# Altium footprint library project_x_pcb_library.PcbLib: 29 footprints (part 1 of 2)
Each footprint in its own frame and in the unit in brackets; x right, y up, seen from the top. Pads: shape width x height; smd on the part's side, far side on the other; paste and mask are expansions set on the pad; w line width, h text height; cw(c..) or ccw(c..) is an arc to the next point about the centre after c.
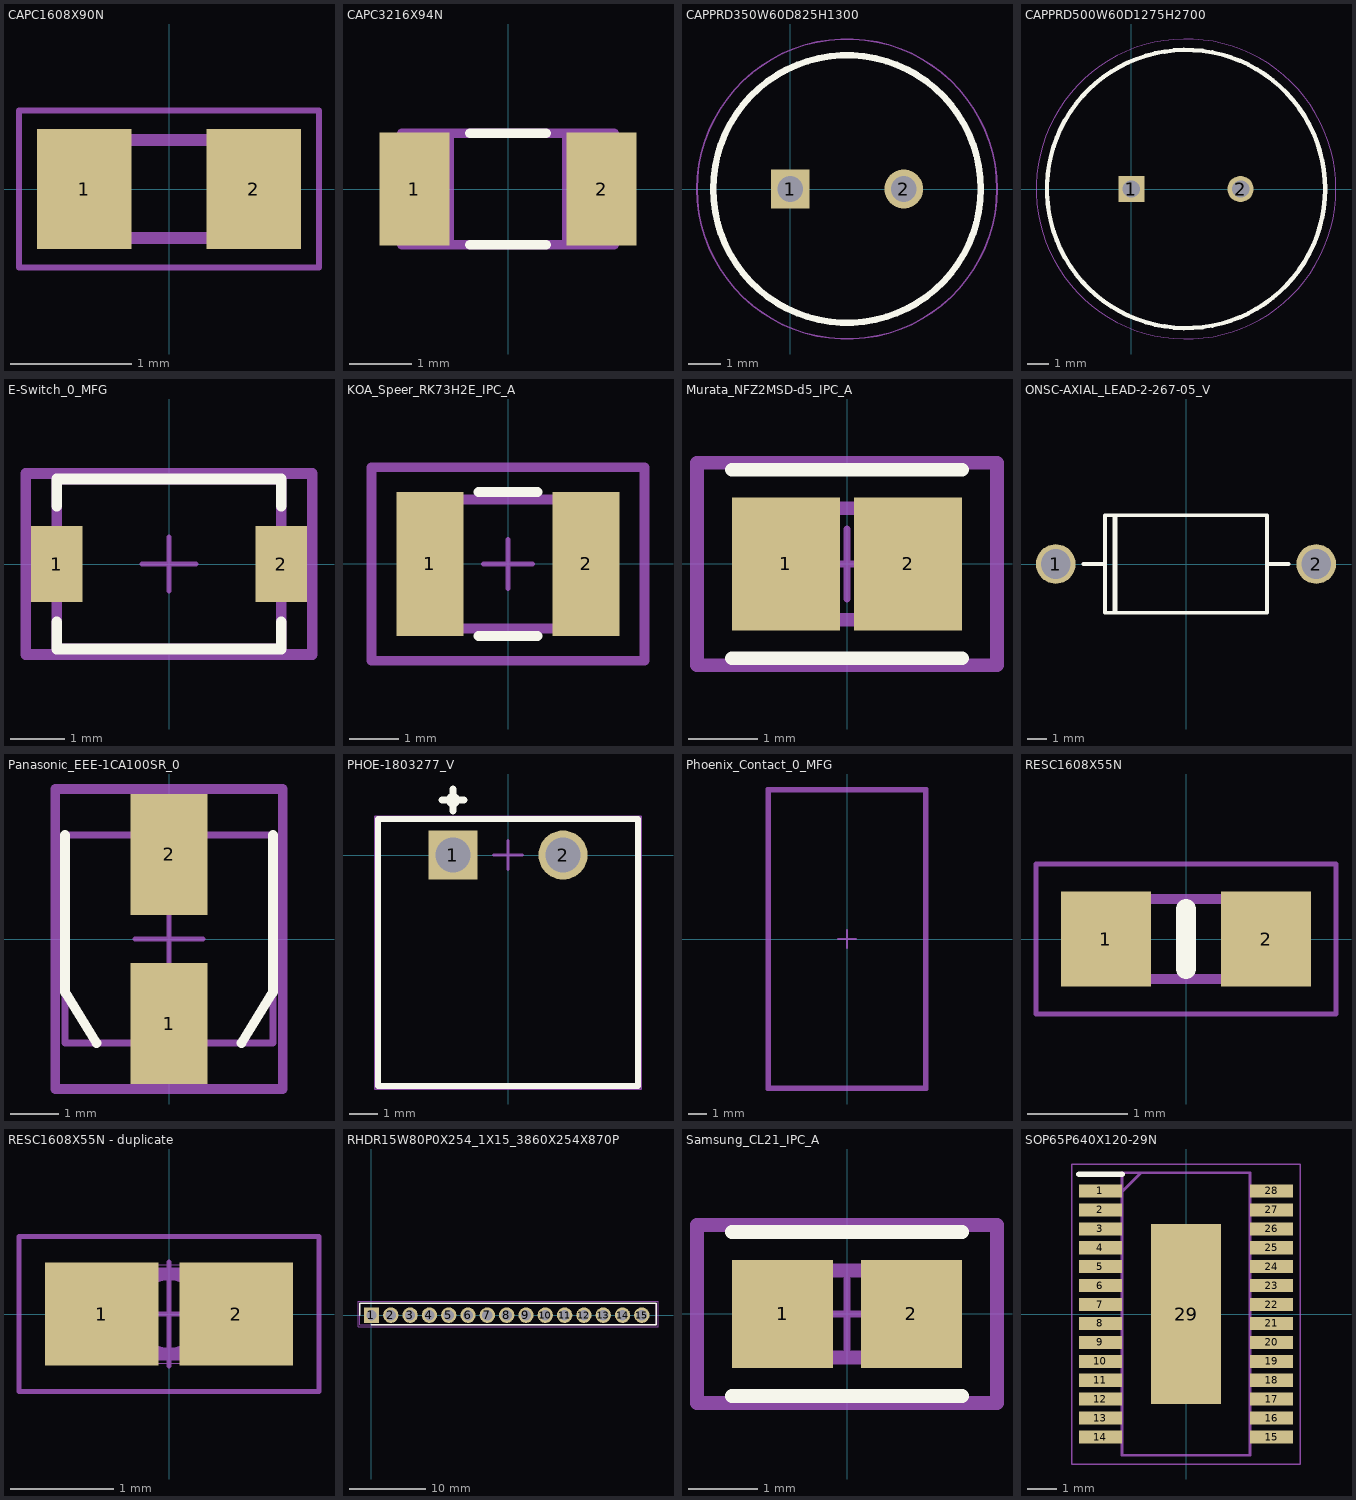
[diagram p0: the footprints below, top view; thin cyan lines are the x and y axes]

## CAPC1608X90N [mm]
pads (2):
  rect 0.78x0.99 smd: 1(-0.7,0) 2(0.7,0)
Mechanical 13:
  lines w0.1: -0.8,-0.405 0.8,-0.405 0.8,0.405 -0.8,0.405 -0.8,-0.405
Mechanical 15:
  lines w0.05: -1.24,-0.65 1.24,-0.65 1.24,0.65 -1.24,0.65 -1.24,-0.65
3D body "06033D224KAT2A.stp": height 0.9, standoff 0, extent -0.8,-0.405 0.8,0.405

## CAPC3216X94N [mil]
pads (2):
  rect 44x71 smd: 1(-59,0) 2(59,0)
Top Overlay:
  lines w6: -24,-35 24,-35 ; -24,35 24,35
Mechanical 13:
  lines w6: -37,-35 37,-35 ; -37,-35 -67,-35 -67,35 -37,35 ; -37,-35 -37,35 ; -37,35 37,35 ; 37,-35 67,-35 67,35 37,35 ; 37,-35 37,35
3D body "1206_AVX.step": height 37.01, standoff 0, extent -67,-35.51 67.01,35.51

## CAPPRD350W60D825H1300 [mm]
pads (2):
  rect 1.2x1.2 hole 0.8: 1(0,0)
  round 1.2 hole 0.8: 2(3.5,0)
Top Overlay:
  circle w0.2: c1.75,0 r4.125
Mechanical 13:
  circle w0.1: c1.75,0 r4.125
Mechanical 15:
  circle w0.05: c1.75,0 r4.625
3D body "UHE1H101MPD.stp": height 13, standoff -10, extent -2.5,-4.25 6,4.25

## CAPPRD500W60D1275H2700 [mm]
pads (2):
  rect 1.2x1.2 hole 0.8: 1(0,0)
  round 1.2 hole 0.8: 2(5,0)
Top Overlay:
  circle w0.2: c2.5,0 r6.375
Mechanical 13:
  circle w0.1: c2.5,0 r6.375
Mechanical 15:
  circle w0.05: c2.5,0 r6.875
3D body "UVR1H102MHD1TO.stp": height 27, standoff -10, extent -4,-6.5 9,6.5

## E-Switch_0_MFG [mm]
pads (2):
  rect 0.95x1.4 smd paste+0 mask+0: 1(-2.075,0) 2(2.075,0)
Top Overlay:
  lines w0.2: -2.075,-1.075 -2.075,-1.575 2.075,-1.575 2.075,-1.075 ; -2.075,1.075 -2.075,1.575 2.075,1.575 2.075,1.075
Mechanical 10:
  lines w0.2: -2.65,-1.675 2.65,-1.675 2.65,1.675 -2.65,1.675 -2.65,-1.675
Mechanical 12:
  lines w0.2: -2.075,-1.575 2.075,-1.575 2.075,1.575 -2.075,1.575 -2.075,-1.575
Mechanical 15:
  lines w0.1: -0.5,0 0.5,0 ; 0,-0.5 0,0.5
  lines w0.2: -2.65,-1.675 2.65,-1.675 2.65,1.675 -2.65,1.675 -2.65,-1.675
3D body "Switch_E-Switch_TL1015AF160QG_eec.STEP": height 0.25, standoff 0, extent -2.65,-1.675 2.65,1.675

## KOA_Speer_RK73H2E_IPC_A [mm]
pads (2):
  rect 1.355x2.906 smd paste+0 mask+0: 1(-1.575,0) 2(1.575,0)
Top Overlay:
  lines w0.2: -0.598,-1.453 0.598,-1.453 ; -0.598,1.453 0.598,1.453
Mechanical 10:
  lines w0.2: -2.753,-1.953 2.753,-1.953 2.753,1.953 -2.753,1.953 -2.753,-1.953
Mechanical 12:
  lines w0.2: -1.6,-1.3 1.6,-1.3 1.6,1.3 -1.6,1.3 -1.6,-1.3
Mechanical 15:
  lines w0.1: -0.5,0 0.5,0 ; 0,-0.5 0,0.5
  lines w0.2: -2.753,-1.953 2.753,-1.953 2.753,1.953 -2.753,1.953 -2.753,-1.953
3D body "Res_KOA_Speer_RK73H2ETTD2201F_eec.STEP": height 0.25, standoff 0, extent -2.753,-1.953 2.753,1.953

## Murata_NFZ2MSD-d5_IPC_A [mm]
pads (2):
  rect 1.554x1.906 smd paste+0 mask+0: 1(-0.876,0) 2(0.876,0)
Top Overlay:
  lines w0.2: -1.653,-1.353 1.653,-1.353 ; -1.653,1.353 1.653,1.353
Mechanical 10:
  lines w0.2: -2.153,-1.453 -2.153,1.453 2.153,1.453 2.153,-1.453 -2.153,-1.453
Mechanical 12:
  lines w0.2: -1,-0.8 -1,0.8 1,0.8 1,-0.8 -1,-0.8
Mechanical 15:
  lines w0.1: -0.5,0 0.5,0 ; 0,-0.5 0,0.5
  lines w0.2: -2.153,-1.453 -2.153,1.453 2.153,1.453 2.153,-1.453 -2.153,-1.453
3D body "FBead_Murata_NFZ2MSD301SZ10L_eec.STEP": height 0.25, standoff 0, extent -2.153,-1.453 2.153,1.453

## ONSC-AXIAL_LEAD-2-267-05_V [mm] "AXIAL, 2-Leads, Diameter 5.05mm"
height 5.05
pads (2):
  round 2.05 hole 1.55: 1(-6.745,0) 2(6.745,0)
Top Overlay:
  lines w0.2: -5.32,0 -4.2,0 ; 4.2,0 5.32,0 ; -4.2,-2.525 -4.2,2.525 4.2,2.525 4.2,-2.525 -4.2,-2.525
  lines w0.254: -3.683,-2.413 -3.683,2.413

## Panasonic_EEE-1CA100SR_0 [mm]
pads (2):
  rect 1.6x2.5 smd paste+0 mask+0: 1(0,-1.75) 2(0,1.75)
Top Overlay:
  lines w0.2: -2.15,-1.1 -2.15,2.15 ; -2.15,-1.09 -1.5,-2.15 ; 1.5,-2.15 2.15,-1.09 ; 2.15,-1.1 2.15,2.15
Mechanical 10:
  lines w0.2: -2.35,-3.1 2.35,-3.1 2.35,3.1 -2.35,3.1 -2.35,-3.1
Mechanical 12:
  lines w0.15: -2.15,-2.15 2.15,-2.15 2.15,2.15 -2.15,2.15 -2.15,-2.15
Mechanical 15:
  lines w0.1: -0.705,0 0.705,0 ; 0,-0.705 0,0.705
  lines w0.2: -2.35,-3.1 2.35,-3.1 2.35,3.1 -2.35,3.1 -2.35,-3.1
3D body "Cap_Panasonic_EEE-1CA100SR_eec.STEP": height 5.4, standoff 0, extent -2.119,-2.413 2.181,2.587

## PHOE-1803277_V [mm] "CONN, Body 9.2x9.01mm, Pitch 3.81mm"
height 7.25
pads (2):
  rect 1.7x1.7 hole 1.2: 1(-1.905,0)
  round 1.7 hole 1.2: 2(1.905,0)
Top Overlay:
  circle w0.25: c-1.905,1.9 r0.125
  lines w0.2: -4.505,-8 4.505,-8 4.505,1.25 -4.505,1.25 -4.505,-8
  lines w0.254: -2.286,1.905 -1.524,1.905 ; -1.905,1.524 -1.905,2.286
Mechanical 13:
  lines w0.1: -4.505,-8 -4.505,1.2 4.505,1.2 4.505,-8 -4.505,-8
Mechanical 15:
  lines w0.05: -4.605,-8.1 4.605,-8.1 4.605,1.35 -4.605,1.35 -4.605,-8.1
  lines w0.1: -0.5,0 0.5,0 ; 0,-0.5 0,0.5
3D body "1803277.stp": height 7.25, standoff -3.4, extent -4.505,-8 4.505,1.3

## Phoenix_Contact_0_MFG [mm]
Mechanical 10:
  lines w0.2: -4.38,-8.225 -4.38,8.225 4.38,8.225 4.38,-8.225 -4.38,-8.225
Mechanical 12:
  lines w0.2: -4.28,-8.125 -4.28,8.125 4.28,8.125 4.28,-8.125 -4.28,-8.125
Mechanical 15:
  lines w0.1: -0.5,0 0.5,0 ; 0,-0.5 0,0.5
  lines w0.2: -4.38,-8.225 -4.38,8.225 4.38,8.225 4.38,-8.225 -4.38,-8.225
3D body "Conn_Phoenix_Contact_1803578_eec.STEP": height 0.25, standoff 0, extent -4.38,-8.225 4.38,8.225

## RESC1608X55N [mm]
pads (2):
  rect 0.9x0.95 smd: 1(-0.8,0) 2(0.8,0)
Top Overlay:
  lines w0.2: 0,-0.3 0,0.3
Mechanical 13:
  lines w0.1: -0.8,-0.4 0.8,-0.4 0.8,0.4 -0.8,0.4 -0.8,-0.4
Mechanical 15:
  lines w0.05: -1.5,-0.75 1.5,-0.75 1.5,0.75 -1.5,0.75 -1.5,-0.75
3D body "ESR03EZPF10R0.stp": height 0.55, standoff 0, extent -0.8,-0.4 0.8,0.4

## RESC1608X55N - duplicate [mm]
pads (2):
  rect 1.1x1 smd: 1(-0.65,0) 2(0.65,0)
Mechanical 13:
  lines w0.1: -0.8,-0.4 0.8,-0.4 0.8,0.4 -0.8,0.4 -0.8,-0.4
Mechanical 15:
  circle w0.05: c0,0 r0.35
  lines w0.001: -0.85,-0.475 0.85,-0.475 0.85,0.475 -0.85,0.475 -0.85,-0.475
  lines w0.05: -0.5,0 0.5,0 ; 0,-0.5 0,0.5 ; -1.45,-0.75 1.45,-0.75 1.45,0.75 -1.45,0.75 -1.45,-0.75
3D body "RC0603JR-0768RL.stp": height 0.55, standoff 0, extent -0.8,-0.4 0.8,0.4

## RHDR15W80P0X254_1X15_3860X254X870P [mm]
pads (15):
  rect 2.025x2.025 hole 1.35: 1(0,0)
  round 2.025 hole 1.35: 2(2.54,0) 3(5.08,0) 4(7.62,0) 5(10.16,0) 6(12.7,0) 7(15.24,0) 8(17.78,0) 9(20.32,0) 10(22.86,0) 11(25.4,0) 12(27.94,0) 13(30.48,0) 14(33.02,0) 15(35.56,0)
Top Overlay:
  lines w0.2: -1.52,0 -1.52,1.57 37.43,1.57 37.43,-1.27 0,-1.27
Mechanical 13:
  lines w0.1: -1.52,-1.27 37.43,-1.27 37.43,1.57 -1.52,1.57 -1.52,-1.27
Mechanical 15:
  lines w0.05: -1.77,-1.52 37.68,-1.52 37.68,1.82 -1.77,1.82 -1.77,-1.52
3D body "PPPC151LFBN-RC.stp": height 8.7, standoff -3.5, extent -1.52,-1.27 37.08,1.27

## Samsung_CL21_IPC_A [mm]
pads (2):
  rect 1.455x1.556 smd paste+0 mask+0: 1(-0.926,0) 2(0.926,0)
Top Overlay:
  lines w0.2: -1.653,-1.178 1.653,-1.178 ; -1.653,1.178 1.653,1.178
Mechanical 10:
  lines w0.2: -2.153,-1.278 2.153,-1.278 2.153,1.278 -2.153,1.278 -2.153,-1.278
Mechanical 12:
  lines w0.2: -1,-0.625 1,-0.625 1,0.625 -1,0.625 -1,-0.625
Mechanical 15:
  lines w0.1: -0.5,0 0.5,0 ; 0,-0.5 0,0.5
  lines w0.2: -2.153,-1.278 2.153,-1.278 2.153,1.278 -2.153,1.278 -2.153,-1.278
3D body "Cap_Samsung_CL21B225KAFNFNE_eec.STEP": height 0.25, standoff 0, extent -2.153,-1.278 2.153,1.278

## SOP65P640X120-29N [mm]
pads (29):
  rect 1.475x0.45 smd: 1(-2.938,4.225) 2(-2.938,3.575) 3(-2.938,2.925) 4(-2.938,2.275) 5(-2.938,1.625) 6(-2.938,0.975) 7(-2.938,0.325) 8(-2.938,-0.325) 9(-2.938,-0.975) 10(-2.938,-1.625) 11(-2.938,-2.275) 12(-2.938,-2.925) 13(-2.938,-3.575) 14(-2.938,-4.225) 15(2.938,-4.225) 16(2.938,-3.575) 17(2.938,-2.925) 18(2.938,-2.275) 19(2.938,-1.625) 20(2.938,-0.975) 21(2.938,-0.325) 22(2.938,0.325) 23(2.938,0.975) 24(2.938,1.625) 25(2.938,2.275) 26(2.938,2.925) 27(2.938,3.575) 28(2.938,4.225)
  rect 2.4x6.17 smd: 29(0,0)
Top Overlay:
  lines w0.2: -3.675,4.8 -2.2,4.8
Mechanical 13:
  lines w0.1: -2.2,4.2 -1.55,4.85 ; -2.2,-4.85 2.2,-4.85 2.2,4.85 -2.2,4.85 -2.2,-4.85
Mechanical 15:
  lines w0.05: -3.925,-5.15 3.925,-5.15 3.925,5.15 -3.925,5.15 -3.925,-5.15
3D body "TPA3136D2PWP.stp": height 1.2, standoff 0, extent -3.2,-4.85 3.2,4.85